# EAGLE library part LCD7SEG4_8_C4 (library akita)
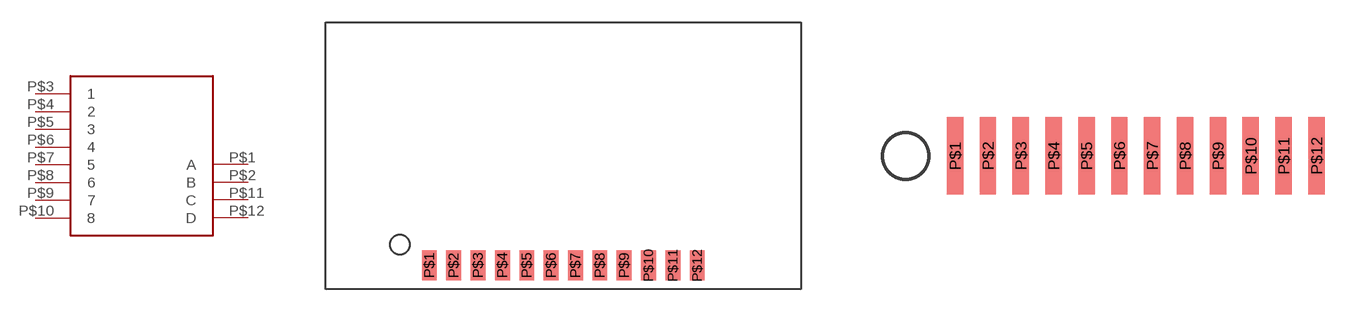
[diagram p69: symbol with the pads of LCD7SEG4_12_1.64MM; footprints LCD7SEG4_12_1.64MM, LCD7SEG4_12_1.27MM]

Designator prefix -

## LCD7SEG4_8_C4A  [LCD7SEG4_12_1.64MM]
P$1  A
P$2  B
P$3  1
P$4  2
P$5  3
P$6  4
P$7  5
P$8  6
P$9  7
P$10  8
P$11  C
P$12  D

## LCD7SEG4_8_C4B  [LCD7SEG4_12_1.27MM]
Pads as for LCD7SEG4_12_1.64MM

## LCD7SEG4_8_C4C  [LCD7SEG5_12_1MM]
Pads as for LCD7SEG4_12_1.64MM

## Footprint LCD7SEG4_12_1.64MM (pad centres in mm)
smd 1 x 2: P$1 -9.02,-7.38; P$2 -7.38,-7.38; P$3 -5.74,-7.38; P$4 -4.1,-7.38; P$5 -2.46,-7.38; P$6 -0.82,-7.38; P$7 0.82,-7.38; P$8 2.46,-7.38; P$9 4.1,-7.38; P$10 5.74,-7.38; P$11 7.38,-7.38; P$12 9.02,-7.38

## Footprint LCD7SEG4_12_1.27MM (pad centres in mm)
smd 0.635 x 3: P$1 -6.985,-7.62; P$2 -5.715,-7.62; P$3 -4.445,-7.62; P$4 -3.175,-7.62; P$5 -1.905,-7.62; P$6 -0.635,-7.62; P$7 0.635,-7.62; P$8 1.905,-7.62; P$9 3.175,-7.62; P$10 4.445,-7.62; P$11 5.715,-7.62; P$12 6.985,-7.62

## Footprint LCD7SEG5_12_1MM (pad centres in mm)
smd 0.5 x 3: P$1 -7,-10.75; P$2 -6,-10.75; P$3 -5,-10.75; P$4 -4,-10.75; P$5 -3,-10.75; P$6 -2,-10.75; P$7 -1,-10.75; P$8 0,-10.75; P$9 1,-10.75; P$10 2,-10.75; P$11 3,-10.75; P$12 4,-10.75